# Altium footprint library MOSFET.PcbLib: 4 footprints
Each footprint in its own frame and in the unit in brackets; x right, y up, seen from the top. Pads: shape width x height; smd on the part's side, far side on the other; paste and mask are expansions set on the pad; w line width, h text height; cw(c..) or ccw(c..) is an arc to the next point about the centre after c.
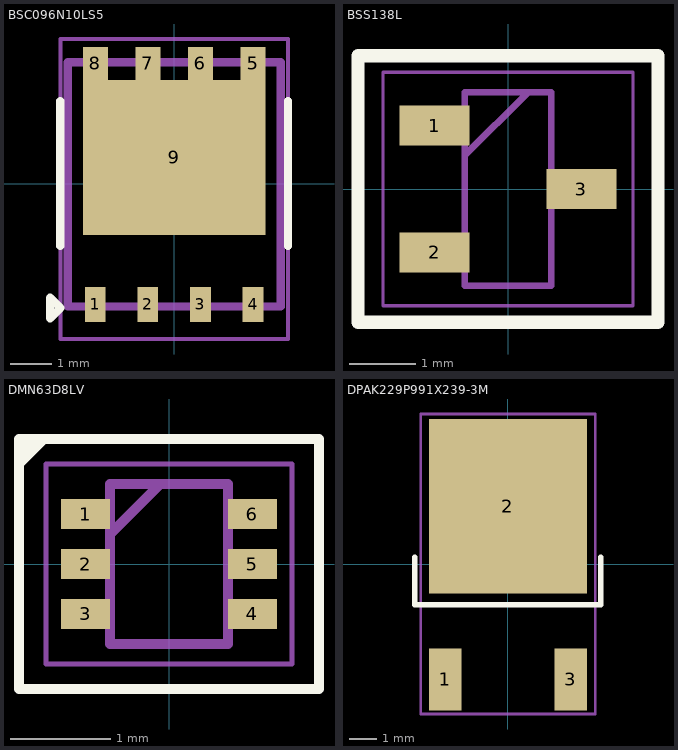
[diagram p0: the footprints below, top view; thin cyan lines are the x and y axes]

## BSC096N10LS5 [mm]
pads (9):
  rect 0.5x0.85 smd: 1(-1.905,-2.912) 2(-0.635,-2.912) 3(0.635,-2.912) 4(1.905,-2.912)
  rect 0.6x0.8 smd: 5(1.905,2.913) 6(0.635,2.913) 7(-0.635,2.913) 8(-1.905,2.913)
  rect 4.41x3.75 smd: 9(0,0.638)
Top Overlay:
  lines w0.2: -2.75,-1.5 -2.75,2 ; 2.75,-1.5 2.75,2 ; -3,-3.25 -2.75,-3 -3,-2.75 -3,-3.25
Mechanical 13:
  lines w0.2: -2.575,-2.962 2.575,-2.962 2.575,2.937 -2.575,2.937 -2.575,-2.962
Mechanical 15:
  lines w0.1: -2.75,-3.75 2.75,-3.75 2.75,3.5 -2.75,3.5 -2.75,-3.75
3D body "BSC096N10LS5ATMA1.stp": height 1.1, standoff 0, extent -2.575,-3.087 2.575,3.063

## BSS138L [mm]
pads (3):
  rect 1.05x0.6 smd: 1(-1.1,0.95) 2(-1.1,-0.95) 3(1.1,0)
Top Overlay:
  lines w0.2: -2.25,-2 -2.25,2 2.25,2 2.25,-2 -2.25,-2
Mechanical 13:
  lines w0.1: -0.65,0.5 0.3,1.45 ; -0.65,-1.45 -0.65,1.45 0.65,1.45 0.65,-1.45 -0.65,-1.45
Mechanical 15:
  lines w0.05: -1.875,-1.75 -1.875,1.75 1.875,1.75 1.875,-1.75 -1.875,-1.75
3D body "BSS138P,215.stp": height 0.95, standoff 0, extent -1.201,-1.448 1.199,1.452

## DMN63D8LV [mm]
pads (6):
  rect 0.492x0.3 smd: 1(-0.834,0.5) 2(-0.834,0) 3(-0.834,-0.5) 4(0.834,-0.5) 5(0.834,0) 6(0.834,0.5)
Top Overlay:
  lines w0.1: -1.5,1 -1.25,1.25 -1.321,1.25 -1.422,1.148 -1.422,1.157 -1.452,1.187 ; -1.5,-1.25 1.5,-1.25 1.5,1.25 -1.5,1.25 -1.5,-1.25
Mechanical 13:
  lines w0.1: -0.588,0.3 -0.088,0.8 ; -0.588,-0.8 -0.588,0.8 0.588,0.8 0.588,-0.8 -0.588,-0.8
Mechanical 15:
  lines w0.05: -1.23,-1 1.23,-1 1.23,1 -1.23,1 -1.23,-1
3D body "DMN63D8LV-7.stp": height 0.6, standoff 0, extent -0.813,-0.8 0.813,0.8

## DPAK229P991X239-3M [mm] "D-PAK, 3-Pads, Body 6.47x6.54mm (max), IPC Low Density"
height 2.39
pads (3):
  rect 1.2x2.28 smd: 1(-2.3,-4.23) 3(2.3,-4.23)
  rect 5.8x6.4 smd: 2(0,2.12)
Top Overlay:
  lines w0.2: -3.413,0.255 -3.413,-1.5 3.4,-1.5 3.4,0.255
Mechanical 13:
  lines w0.1: -3.2,-5.5 -3.2,5.5 3.2,5.5 3.2,-5.5 -3.2,-5.5
Mechanical 15:
  lines w0.05: -3.2,-5.5 3.2,-5.5 3.2,5.5 -3.2,5.5 -3.2,-5.5
  lines w0.1: -0.51,1.605 0.49,1.605 ; -0.01,1.105 -0.01,2.105
3D body "Infineon-PG-TO252-3-901_3D_01_STP-Package-v02_00-EN.stp": height 2.53, standoff 0, extent -3.28,-5 3.28,5